# EAGLE library part 2.8"TFT_BREAKOUT (library EtchASketch)
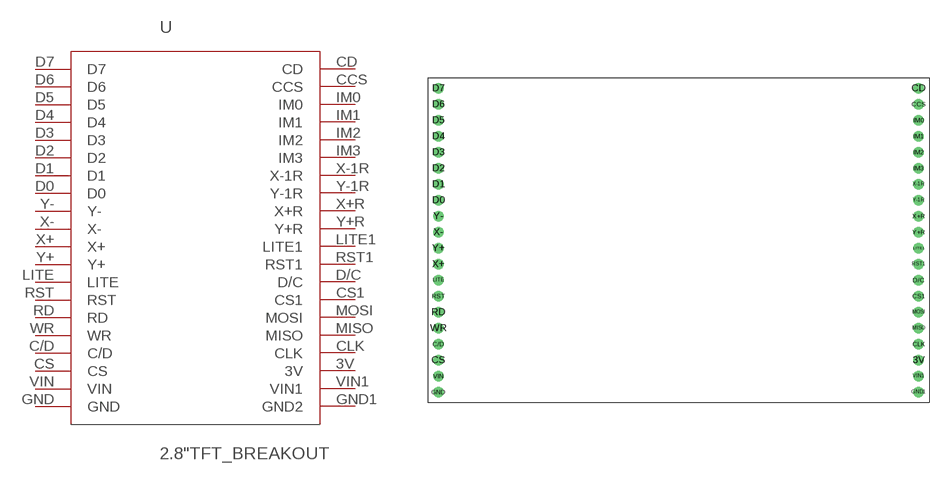
[diagram p4: symbol with the pads of 2.8"TFTBRTEAKOUT; footprint 2.8"TFTBRTEAKOUT]

Designator prefix -

## 2.8"TFT_BREAKOUT  [2.8"TFTBRTEAKOUT]
3V  3V
C/D  C/D
CCS  CCS
CD  CD
CLK  CLK
CS  CS
CS1  CS1
D0  D0
D1  D1
D2  D2
D3  D3
D4  D4
D5  D5
D6  D6
D7  D7
D/C  D/C
GND  GND
GND1  GND2
IM0  IM0
IM1  IM1
IM2  IM2
IM3  IM3
LITE  LITE
LITE1  LITE1
MISO  MISO
MOSI  MOSI
RD  RD
RST  RST
RST1  RST1
VIN  VIN
VIN1  VIN1
WR  WR
X+  X+
X+R  X+R
X-  X-
X-1R  X-1R
Y+  Y+
Y+R  Y+R
Y-  Y-
Y-1R  Y-1R

## Footprint 2.8"TFTBRTEAKOUT (pad centres in mm)
drill 1.1: 3V 78.74,-44.45; C/D 2.54,-41.91; CCS 78.74,-3.81; CD 78.74,-1.27; CLK 78.74,-41.91; CS 2.54,-44.45; CS1 78.74,-34.29; D0 2.54,-19.05; D1 2.54,-16.51; D2 2.54,-13.97; D3 2.54,-11.43; D4 2.54,-8.89; D5 2.54,-6.35; D6 2.54,-3.81; D7 2.54,-1.27; D/C 78.74,-31.75; GND 2.54,-49.53; GND1 78.74,-49.53; IM0 78.74,-6.35; IM1 78.74,-8.89; IM2 78.74,-11.43; IM3 78.74,-13.97; LITE 2.54,-31.75; LITE1 78.74,-26.67; MISO 78.74,-39.37; MOSI 78.74,-36.83; RD 2.54,-36.83; RST 2.54,-34.29; RST1 78.74,-29.21; VIN 2.54,-46.99; VIN1 78.74,-46.99; WR 2.54,-39.37; X+ 2.54,-29.21; X+R 78.74,-21.59; X- 2.54,-24.13; X-1R 78.74,-16.51; Y+ 2.54,-26.67; Y+R 78.74,-24.13; Y- 2.54,-21.59; Y-1R 78.74,-19.05